# Altium footprint library SW-SMD_3P-L9.1-W3.5-P2.50-EH6.8_2021-08-20.PcbLib: 1 footprints
Each footprint in its own frame and in the unit in brackets; x right, y up, seen from the top. Pads: shape width x height; smd on the part's side, far side on the other; paste and mask are expansions set on the pad; w line width, h text height; cw(c..) or ccw(c..) is an arc to the next point about the centre after c.
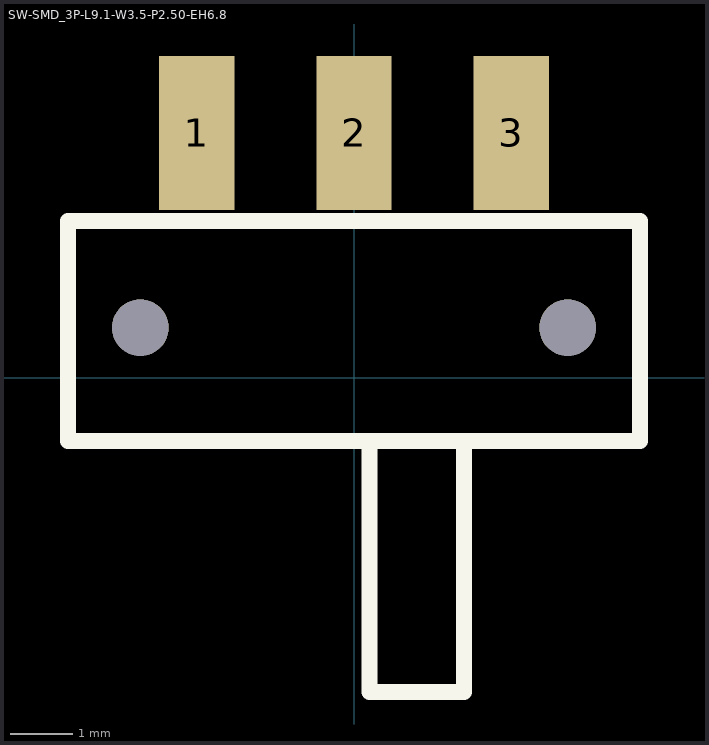
[diagram p0: the footprint, top view; thin cyan lines are the x and y axes]

## SW-SMD_3P-L9.1-W3.5-P2.50-EH6.8 [mm]
pads (5):
  rect 1.2x2.45 smd: 1(-2.5,3.901) 2(0,3.901) 3(2.5,3.901)
  round 0.9 hole 0.9 unplated: ""(-3.4,0.801) ""(3.4,0.801)
Top Overlay:
  lines w0.254: -4.55,-0.999 -4.55,2.501 4.55,2.501 4.55,-0.999 -4.55,-0.999 ; 0.25,-4.999 0.25,-0.999 1.75,-0.999 1.75,-4.999 0.25,-4.999